# Altium schematic symbol library C3216X5R1E476M160AC.SchLib: 1 symbol
Pins are listed as number, name and electrical type; pins without a type are passive.

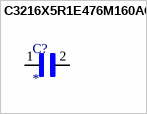
[diagram p0: symbol C3216X5R1E476M160AC]

## C3216X5R1E476M160AC
designator C?
47 ÂµF Â±20% 25V Ceramic Capacitor X5R 1206 (3216 Metric); MF: {'manufacturer': u'TDK'}; MP: C3216X5R1E476M160AC; Value: *; Package: None; Availability: Unavailable; Price: None
footprint CAPC3216X180N
pins: 1, 2